# Altium schematic symbol library FC68148S.SchLib: 2 symbols
Pins are listed as number, name and electrical type; pins without a type are passive.

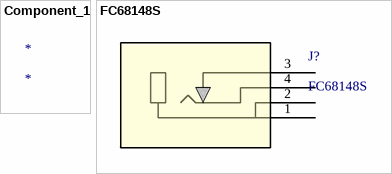
[diagram p0: symbols Component_1 to FC68148S]

## Component_1
designator *

## FC68148S
designator J?
No Description Available; Manufacturer_Name: Cliff; Copyright: Copyright (C) 2025 Ultra Librarian. All rights reserved.; Manufacturer_Part_Number: FC68148S; RefDes: RefDes; Type: Type
footprint FC68148S_CLF
pins: 1, 2, 3, 4